# EAGLE library part 87520-0010BLF (library Connectors)
USB Type-A(TM) receptacle
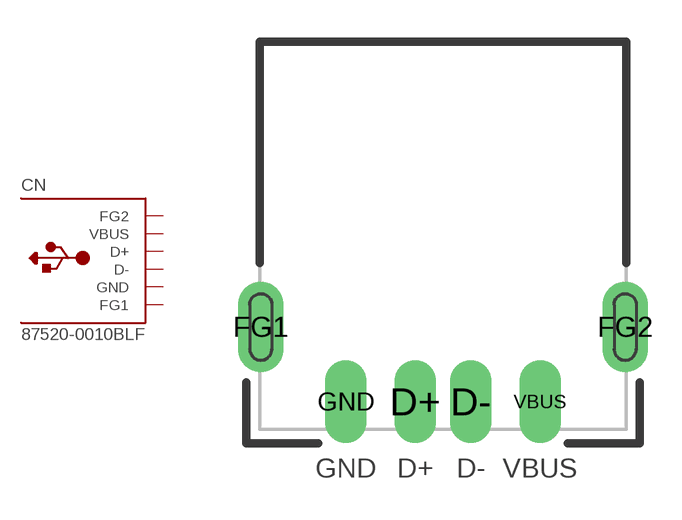
[diagram p6: symbol with the pads of 87520-0010BLF; footprint 87520-0010BLF]

Designator prefix CN

## 87520-0010BLF  [87520-0010BLF]
D+  D+
D-  D-
FG1  FG1  pas
FG2  FG2  pas
GND  GND  pas
VBUS  VBUS  pas

## Footprint 87520-0010BLF (pad centres in mm)
USB Type-A Receptacle design for Amphenol 87520-0010BLF
drill 0.92 pad 1.5 long: D+ -1,0; D- 1,0; GND -3.5,0; VBUS 3.5,0
drill 0.8 pad 1.64 long: FG1 -6.57,2.7; FG2 6.57,2.7